# EAGLE library part BELA_CAPELET (library bela_capelet)
Should match A3 pinout - but not completely tested
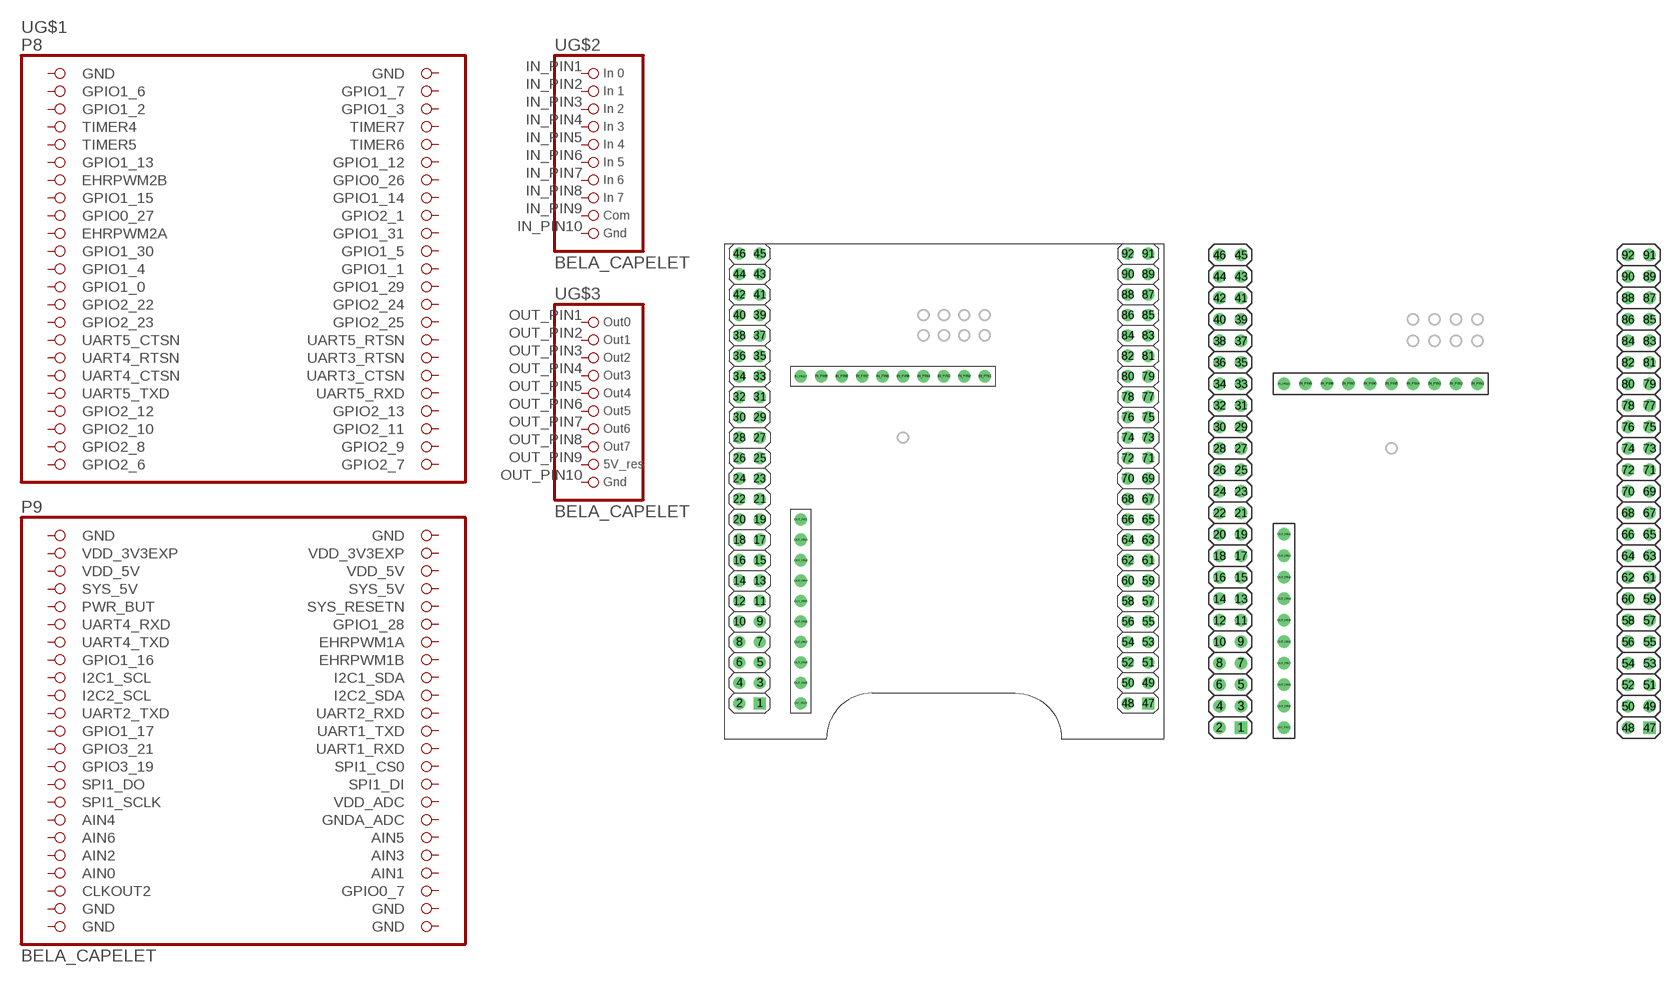
[diagram p0: symbol with the pads of BELA_CAPELET; footprints BELA_CAPELET, BELA_CAPELET_NO_OUTLINE]

Designator prefix -; gates G$1=BEAGLEBONE-1 G$2=BELA_ANALOGIN G$3=BELA_ANALOGOUT

## BELA_CAPELET"  [BELA_CAPELET]
1  G$1:GND  pwr
2  G$1:GND  pwr
3  G$1:GPIO1_6  pas
4  G$1:GPIO1_7  pas
5  G$1:GPIO1_2  pas
6  G$1:GPIO1_3  pas
7  G$1:TIMER4  pas
8  G$1:TIMER7  pas
9  G$1:TIMER5  pas
10  G$1:TIMER6  pas
11  G$1:GPIO1_13  pas
12  G$1:GPIO1_12  pas
13  G$1:EHRPWM2B  pas
14  G$1:GPIO0_26  pas
15  G$1:GPIO1_15  pas
16  G$1:GPIO1_14  pas
17  G$1:GPIO0_27  pas
18  G$1:GPIO2_1  pas
19  G$1:EHRPWM2A  pas
20  G$1:GPIO1_31  pas
21  G$1:GPIO1_30  pas
22  G$1:GPIO1_5  pas
23  G$1:GPIO1_4  pas
24  G$1:GPIO1_1  pas
25  G$1:GPIO1_0  pas
26  G$1:GPIO1_29  pas
27  G$1:GPIO2_22  pas
28  G$1:GPIO2_24  pas
29  G$1:GPIO2_23  pas
30  G$1:GPIO2_25  pas
31  G$1:UART5_CTSN  pas
32  G$1:UART5_RTSN  pas
33  G$1:UART4_RTSN  pas
34  G$1:UART3_RTSN  pas
35  G$1:UART4_CTSN  pas
36  G$1:UART3_CTSN  pas
37  G$1:UART5_TXD  pas
38  G$1:UART5_RXD  pas
39  G$1:GPIO2_12  pas
40  G$1:GPIO2_13  pas
41  G$1:GPIO2_10  pas
42  G$1:GPIO2_11  pas
43  G$1:GPIO2_8  pas
44  G$1:GPIO2_9  pas
45  G$1:GPIO2_6  pas
46  G$1:GPIO2_7  pas
47  G$1:GND  pwr
48  G$1:GND  pwr
49  G$1:VDD_3V3EXP  pwr
50  G$1:VDD_3V3EXP  pwr
51  G$1:VDD_5V  pwr
52  G$1:VDD_5V  pwr
53  G$1:SYS_5V  pwr
54  G$1:SYS_5V  pas
55  G$1:PWR_BUT  pas
56  G$1:SYS_RESETN  pas
57  G$1:UART4_RXD  pas
58  G$1:GPIO1_28  pas
59  G$1:UART4_TXD  pas
60  G$1:EHRPWM1A  pas
61  G$1:GPIO1_16  pas
62  G$1:EHRPWM1B  pas
63  G$1:I2C1_SCL  pas
64  G$1:I2C1_SDA  pas
65  G$1:I2C2_SCL  pas
66  G$1:I2C2_SDA  pas
67  G$1:UART2_TXD  pas
68  G$1:UART2_RXD  pas
69  G$1:GPIO1_17  pas
70  G$1:UART1_TXD  pas
71  G$1:GPIO3_21  pas
72  G$1:UART1_RXD  pas
73  G$1:GPIO3_19  pas
74  G$1:SPI1_CS0  pas
75  G$1:SPI1_DO  pas
76  G$1:SPI1_DI  pas
77  G$1:SPI1_SCLK  pas
78  G$1:VDD_ADC  pas
79  G$1:AIN4  pas
80  G$1:GNDA_ADC  pas
81  G$1:AIN6  pas
82  G$1:AIN5  pas
83  G$1:AIN2  pas
84  G$1:AIN3  pas
85  G$1:AIN0  pwr
86  G$1:AIN1  pas
87  G$1:CLKOUT2  in
88  G$1:GPIO0_7  pas
89  G$1:GND  pwr
90  G$1:GND  pwr
91  G$1:GND  pwr
92  G$1:GND  pwr
IN_PIN1  G$2:1  pas
IN_PIN2  G$2:2  pas
IN_PIN3  G$2:3  pas
IN_PIN4  G$2:4  pas
IN_PIN5  G$2:5  pas
IN_PIN6  G$2:6  pas
IN_PIN7  G$2:7  pas
IN_PIN8  G$2:8  pas
IN_PIN9  G$2:9  pas
IN_PIN10  G$2:10  pas
OUT_PIN1  G$3:1  pas
OUT_PIN2  G$3:2  pas
OUT_PIN3  G$3:3  pas
OUT_PIN4  G$3:4  pas
OUT_PIN5  G$3:5  pas
OUT_PIN6  G$3:6  pas
OUT_PIN7  G$3:7  pas
OUT_PIN8  G$3:8  pas
OUT_PIN9  G$3:9  pas
OUT_PIN10  G$3:10  pas

## BELA_CAPELET_NO_OUT  [BELA_CAPELET_NO_OUTLINE]
Pads as for BELA_CAPELET

## BELA_CAPELET_EXT_OUTLINE  [BELA_CAPELET_EXTENDED_OUTLINE]
Pads as for BELA_CAPELET

## Footprint BELA_CAPELET (pad centres in mm)
drill 1 square: 1 2.54,19.05; 47 50.8,19.05
drill 1: 2 0,19.05; 3 2.54,21.59; 4 0,21.59; 5 2.54,24.13; 6 0,24.13; 7 2.54,26.67; 8 0,26.67; 9 2.54,29.21; 10 0,29.21; 11 2.54,31.75; 12 0,31.75; 13 2.54,34.29; 14 0,34.29; 15 2.54,36.83; 16 0,36.83; 17 2.54,39.37; 18 0,39.37; 19 2.54,41.91; 20 0,41.91; 21 2.54,44.45; 22 0,44.45; 23 2.54,46.99; 24 0,46.99; 25 2.54,49.53; 26 0,49.53; 27 2.54,52.07; 28 0,52.07; 29 2.54,54.61; 30 0,54.61; 31 2.54,57.15; 32 0,57.15; 33 2.54,59.69; 34 0,59.69; 35 2.54,62.23; 36 0,62.23; 37 2.54,64.77; 38 0,64.77; 39 2.54,67.31; 40 0,67.31; 41 2.54,69.85; 42 0,69.85; 43 2.54,72.39; 44 0,72.39; 45 2.54,74.93; 46 0,74.93; 48 48.26,19.05; 49 50.8,21.59; 50 48.26,21.59; 51 50.8,24.13; 52 48.26,24.13; 53 50.8,26.67; 54 48.26,26.67; 55 50.8,29.21; 56 48.26,29.21; 57 50.8,31.75; 58 48.26,31.75; 59 50.8,34.29; 60 48.26,34.29; 61 50.8,36.83; 62 48.26,36.83; 63 50.8,39.37; 64 48.26,39.37; 65 50.8,41.91; 66 48.26,41.91; 67 50.8,44.45; 68 48.26,44.45; 69 50.8,46.99; 70 48.26,46.99; 71 50.8,49.53; 72 48.26,49.53; 73 50.8,52.07; 74 48.26,52.07; 75 50.8,54.61; 76 48.26,54.61; 77 50.8,57.15; 78 48.26,57.15; 79 50.8,59.69; 80 48.26,59.69; 81 50.8,62.23; 82 48.26,62.23; 83 50.8,64.77; 84 48.26,64.77; 85 50.8,67.31; 86 48.26,67.31; 87 50.8,69.85; 88 48.26,69.85; 89 50.8,72.39; 90 48.26,72.39; 91 50.8,74.93; 92 48.26,74.93; IN_PIN1 30.48,59.69; IN_PIN2 27.94,59.69; IN_PIN3 25.4,59.69; IN_PIN4 22.86,59.69; IN_PIN5 20.32,59.69; IN_PIN6 17.78,59.69; IN_PIN7 15.24,59.69; IN_PIN8 12.7,59.69; IN_PIN9 10.16,59.69; IN_PIN10 7.62,59.69; OUT_PIN1 7.62,41.91; OUT_PIN2 7.62,39.37; OUT_PIN3 7.62,36.83; OUT_PIN4 7.62,34.29; OUT_PIN5 7.62,31.75; OUT_PIN6 7.62,29.21; OUT_PIN7 7.62,26.67; OUT_PIN8 7.62,24.13; OUT_PIN9 7.62,21.59; OUT_PIN10 7.62,19.05

## Footprint BELA_CAPELET_NO_OUTLINE (pad centres in mm)
drill 1 square: 1 -20.32,-31.75; 47 27.94,-31.75
drill 1: 2 -22.86,-31.75; 3 -20.32,-29.21; 4 -22.86,-29.21; 5 -20.32,-26.67; 6 -22.86,-26.67; 7 -20.32,-24.13; 8 -22.86,-24.13; 9 -20.32,-21.59; 10 -22.86,-21.59; 11 -20.32,-19.05; 12 -22.86,-19.05; 13 -20.32,-16.51; 14 -22.86,-16.51; 15 -20.32,-13.97; 16 -22.86,-13.97; 17 -20.32,-11.43; 18 -22.86,-11.43; 19 -20.32,-8.89; 20 -22.86,-8.89; 21 -20.32,-6.35; 22 -22.86,-6.35; 23 -20.32,-3.81; 24 -22.86,-3.81; 25 -20.32,-1.27; 26 -22.86,-1.27; 27 -20.32,1.27; 28 -22.86,1.27; 29 -20.32,3.81; 30 -22.86,3.81; 31 -20.32,6.35; 32 -22.86,6.35; 33 -20.32,8.89; 34 -22.86,8.89; 35 -20.32,11.43; 36 -22.86,11.43; 37 -20.32,13.97; 38 -22.86,13.97; 39 -20.32,16.51; 40 -22.86,16.51; 41 -20.32,19.05; 42 -22.86,19.05; 43 -20.32,21.59; 44 -22.86,21.59; 45 -20.32,24.13; 46 -22.86,24.13; 48 25.4,-31.75; 49 27.94,-29.21; 50 25.4,-29.21; 51 27.94,-26.67; 52 25.4,-26.67; 53 27.94,-24.13; 54 25.4,-24.13; 55 27.94,-21.59; 56 25.4,-21.59; 57 27.94,-19.05; 58 25.4,-19.05; 59 27.94,-16.51; 60 25.4,-16.51; 61 27.94,-13.97; 62 25.4,-13.97; 63 27.94,-11.43; 64 25.4,-11.43; 65 27.94,-8.89; 66 25.4,-8.89; 67 27.94,-6.35; 68 25.4,-6.35; 69 27.94,-3.81; 70 25.4,-3.81; 71 27.94,-1.27; 72 25.4,-1.27; 73 27.94,1.27; 74 25.4,1.27; 75 27.94,3.81; 76 25.4,3.81; 77 27.94,6.35; 78 25.4,6.35; 79 27.94,8.89; 80 25.4,8.89; 81 27.94,11.43; 82 25.4,11.43; 83 27.94,13.97; 84 25.4,13.97; 85 27.94,16.51; 86 25.4,16.51; 87 27.94,19.05; 88 25.4,19.05; 89 27.94,21.59; 90 25.4,21.59; 91 27.94,24.13; 92 25.4,24.13; IN_PIN1 7.62,8.89; IN_PIN2 5.08,8.89; IN_PIN3 2.54,8.89; IN_PIN4 0,8.89; IN_PIN5 -2.54,8.89; IN_PIN6 -5.08,8.89; IN_PIN7 -7.62,8.89; IN_PIN8 -10.16,8.89; IN_PIN9 -12.7,8.89; IN_PIN10 -15.24,8.89; OUT_PIN1 -15.24,-8.89; OUT_PIN2 -15.24,-11.43; OUT_PIN3 -15.24,-13.97; OUT_PIN4 -15.24,-16.51; OUT_PIN5 -15.24,-19.05; OUT_PIN6 -15.24,-21.59; OUT_PIN7 -15.24,-24.13; OUT_PIN8 -15.24,-26.67; OUT_PIN9 -15.24,-29.21; OUT_PIN10 -15.24,-31.75

## Footprint BELA_CAPELET_EXTENDED_OUTLINE (pad centres in mm)
drill 1 square: 1 2.54,16.51; 47 50.8,16.51
drill 1: 2 0,16.51; 3 2.54,19.05; 4 0,19.05; 5 2.54,21.59; 6 0,21.59; 7 2.54,24.13; 8 0,24.13; 9 2.54,26.67; 10 0,26.67; 11 2.54,29.21; 12 0,29.21; 13 2.54,31.75; 14 0,31.75; 15 2.54,34.29; 16 0,34.29; 17 2.54,36.83; 18 0,36.83; 19 2.54,39.37; 20 0,39.37; 21 2.54,41.91; 22 0,41.91; 23 2.54,44.45; 24 0,44.45; 25 2.54,46.99; 26 0,46.99; 27 2.54,49.53; 28 0,49.53; 29 2.54,52.07; 30 0,52.07; 31 2.54,54.61; 32 0,54.61; 33 2.54,57.15; 34 0,57.15; 35 2.54,59.69; 36 0,59.69; 37 2.54,62.23; 38 0,62.23; 39 2.54,64.77; 40 0,64.77; 41 2.54,67.31; 42 0,67.31; 43 2.54,69.85; 44 0,69.85; 45 2.54,72.39; 46 0,72.39; 48 48.26,16.51; 49 50.8,19.05; 50 48.26,19.05; 51 50.8,21.59; 52 48.26,21.59; 53 50.8,24.13; 54 48.26,24.13; 55 50.8,26.67; 56 48.26,26.67; 57 50.8,29.21; 58 48.26,29.21; 59 50.8,31.75; 60 48.26,31.75; 61 50.8,34.29; 62 48.26,34.29; 63 50.8,36.83; 64 48.26,36.83; 65 50.8,39.37; 66 48.26,39.37; 67 50.8,41.91; 68 48.26,41.91; 69 50.8,44.45; 70 48.26,44.45; 71 50.8,46.99; 72 48.26,46.99; 73 50.8,49.53; 74 48.26,49.53; 75 50.8,52.07; 76 48.26,52.07; 77 50.8,54.61; 78 48.26,54.61; 79 50.8,57.15; 80 48.26,57.15; 81 50.8,59.69; 82 48.26,59.69; 83 50.8,62.23; 84 48.26,62.23; 85 50.8,64.77; 86 48.26,64.77; 87 50.8,67.31; 88 48.26,67.31; 89 50.8,69.85; 90 48.26,69.85; 91 50.8,72.39; 92 48.26,72.39; IN_PIN1 30.48,57.15; IN_PIN2 27.94,57.15; IN_PIN3 25.4,57.15; IN_PIN4 22.86,57.15; IN_PIN5 20.32,57.15; IN_PIN6 17.78,57.15; IN_PIN7 15.24,57.15; IN_PIN8 12.7,57.15; IN_PIN9 10.16,57.15; IN_PIN10 7.62,57.15; OUT_PIN1 7.62,39.37; OUT_PIN2 7.62,36.83; OUT_PIN3 7.62,34.29; OUT_PIN4 7.62,31.75; OUT_PIN5 7.62,29.21; OUT_PIN6 7.62,26.67; OUT_PIN7 7.62,24.13; OUT_PIN8 7.62,21.59; OUT_PIN9 7.62,19.05; OUT_PIN10 7.62,16.51